# EAGLE library part ICSP (library ICSP)
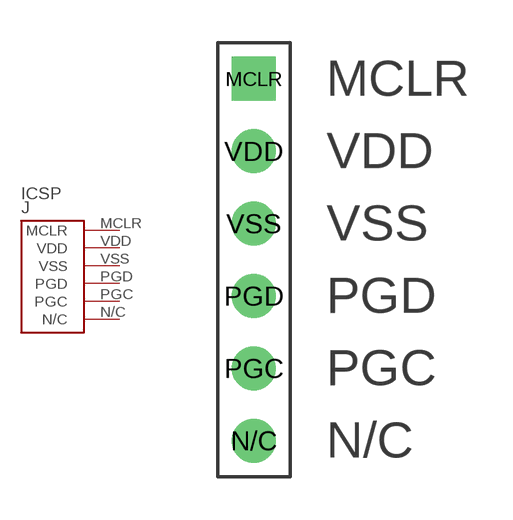
[diagram p0: symbol with the pads of ICSP; footprint ICSP]

Designator prefix J

## ICSP  [ICSP]
MCLR  MCLR
N/C  N/C
PGC  PGC
PGD  PGD
VDD  VDD
VSS  VSS

## Footprint ICSP (pad centres in mm)
drill 1.03 square: MCLR 2.54,7.62
drill 1.03: N/C 2.54,-5.08; PGC 2.54,-2.54; PGD 2.54,0; VDD 2.54,5.08; VSS 2.54,2.54